# EAGLE library part SSM2164 (library analog-audio-chips)
Low Cost Quad Voltage Controlled Amplifier by Analog Devices (120 dB Gain Range)
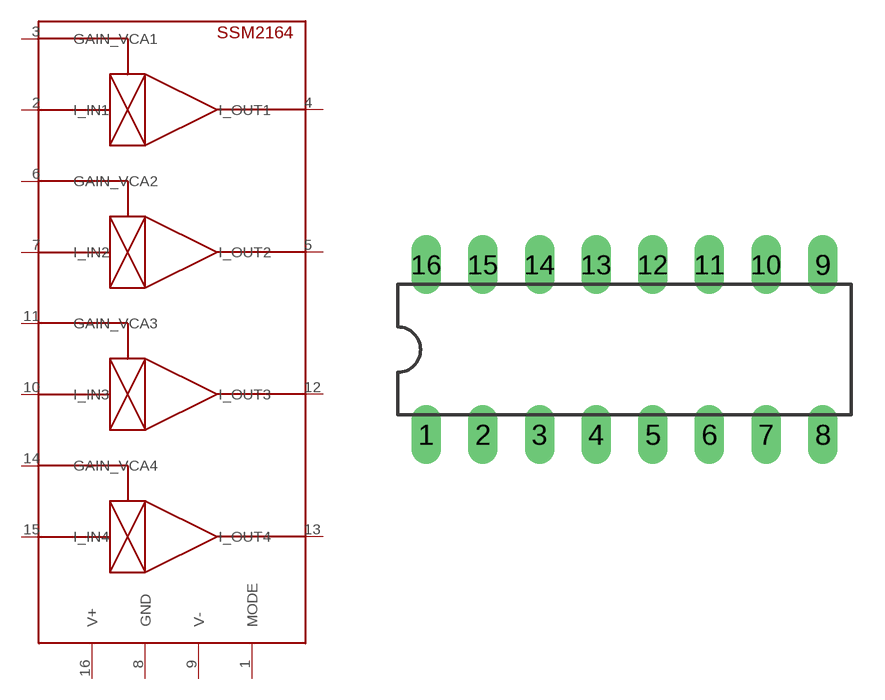
[diagram p1: symbol with the pads of DIL16; footprint DIL16]

Designator prefix -

## SSM2164  [DIL16]
1  MODE
2  I_IN1
3  GAIN_VCA1
4  I_OUT1
5  I_OUT2
6  GAIN_VCA2
7  I_IN2
8  GND
9  V-
10  I_IN3
11  GAIN_VCA3
12  I_OUT3
13  I_OUT4
14  GAIN_VCA4
15  I_IN4
16  V+

## Footprint DIL16 (pad centres in mm)
Dual In Line Package
drill 0.813 long: 1 -8.89,-3.81; 2 -6.35,-3.81; 3 -3.81,-3.81; 4 -1.27,-3.81; 5 1.27,-3.81; 6 3.81,-3.81; 7 6.35,-3.81; 8 8.89,-3.81; 9 8.89,3.81; 10 6.35,3.81; 11 3.81,3.81; 12 1.27,3.81; 13 -1.27,3.81; 14 -3.81,3.81; 15 -6.35,3.81; 16 -8.89,3.81